# EAGLE library part MAX6958AAPE+ (library REEF_LIB)
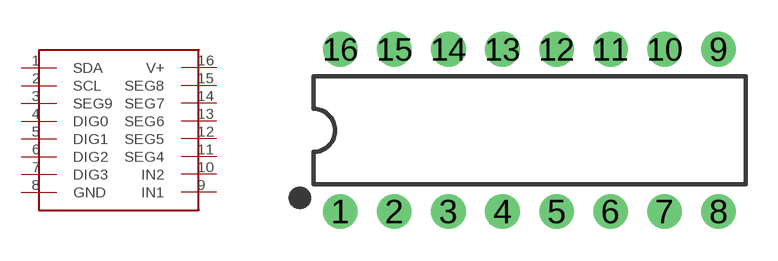
[diagram p5: symbol with the pads of DIP16; footprint DIP16]

Designator prefix LED_DRIVER_A

## MAX6958AAPE+  [DIP16]
1  SDA
2  SCL
3  SEG9
4  DIG0
5  DIG1
6  DIG2
7  DIG3
8  GND
9  IN1
10  IN2
11  SEG4
12  SEG5
13  SEG6
14  SEG7
15  SEG8
16  V+

## Footprint DIP16 (pad centres in mm)
Dual In Line Package - 16 Specifications: Pin count:16 Example device(s): MAX2323
drill 0.813 pad 1.626: 1 -8.89,-3.81; 2 -6.35,-3.81; 3 -3.81,-3.81; 4 -1.27,-3.81; 5 1.27,-3.81; 6 3.81,-3.81; 7 6.35,-3.81; 8 8.89,-3.81; 9 8.89,3.81; 10 6.35,3.81; 11 3.81,3.81; 12 1.27,3.81; 13 -1.27,3.81; 14 -3.81,3.81; 15 -6.35,3.81; 16 -8.89,3.81